# Altium schematic symbol library MC-306_32_7680K-A0_ROHS.SchLib: 1 symbol
Pins are listed as number, name and electrical type; pins without a type are passive.

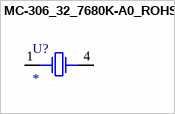
[diagram p0: symbol MC-306_32_7680K-A0_ROHS]

## MC-306_32_7680K-A0_ROHS
designator U?
Value: *
pins: 1, 4 2